# Altium schematic symbol library pads_element_2.SchLib: 1 symbol
Pins are listed as number, name and electrical type; pins without a type are passive.

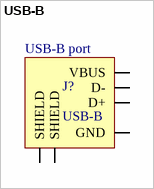
[diagram p0: symbol USB-B]

## USB-B
designator J?  value USB-B port
Universal Serial Bus, Type B - 90° Receptacle (TH); Manufacturer: YAMAICHI ELECTRONICS; Component_author: Kajetan Śpionek; HelpURL: http://www.glyn.com/data/glyn/media/doc/USB-B-001-RoHs.pdf; Supplier 1: Farnell; Supplier Part Number 1: 2112373
footprint UBS B (USE B port)
pins: 1 VBUS, 2 D+, 3 D-, 4 GND, 5 SHIELD, 6 SHIELD